# Altium integrated library National Semiconductor Voltage Reference.IntLib: 796 symbols (part 3 of 20)
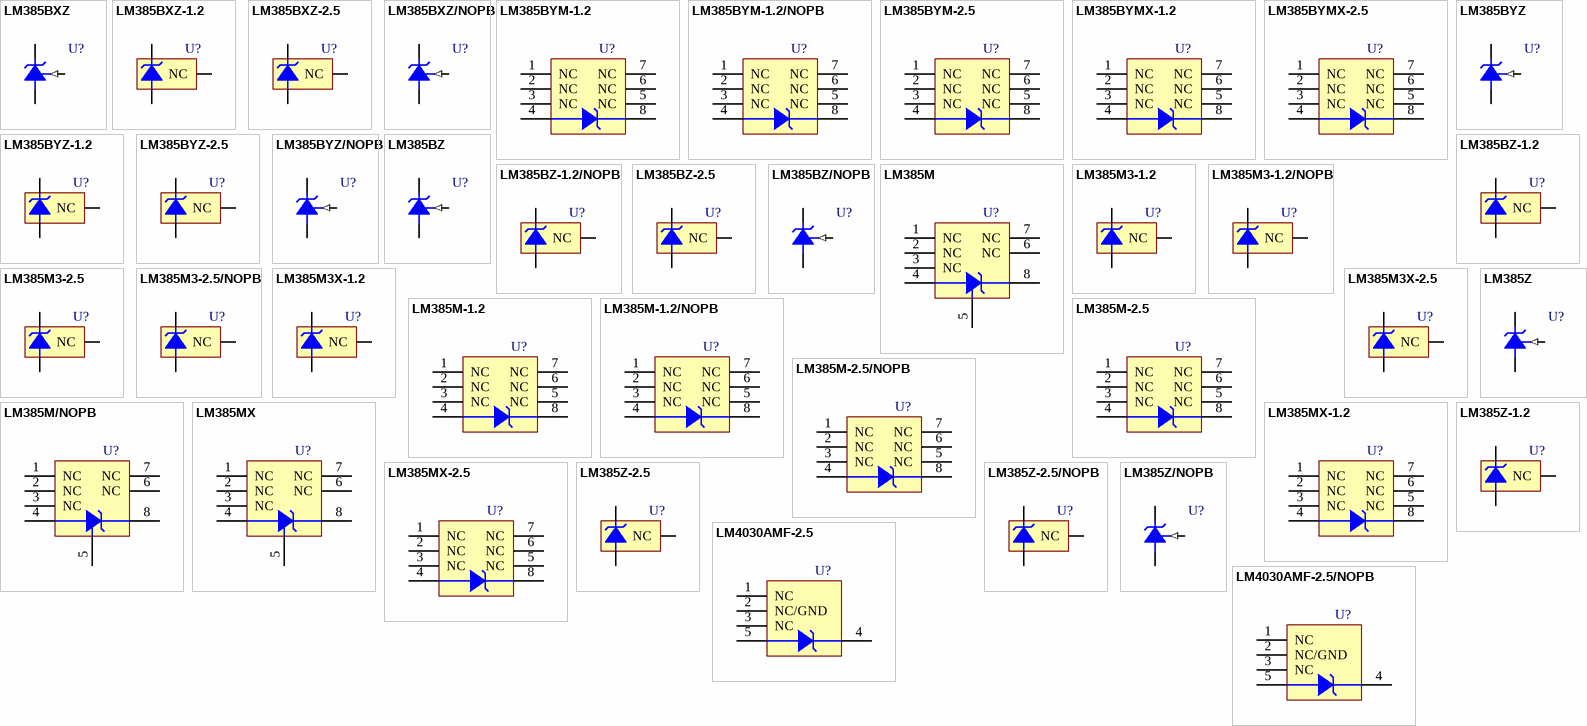
[diagram p22: symbols LM385BXZ to LM4030AMF-2.5/NOPB]

## LM385BYZ/NOPB
designator U?
Adjustable Micropower Voltage Reference, 3-pin TO-92, Pb-Free; PartNumber: LM385BYZ/NOPB; Manufacturer: National Semiconductor; PackageTopMarking: NSXYTT*LM385*BYZ; PowerWise: N; CompType: Voltage Reference IC; High-Reliability: Y; DatasheetVersion: Jan-2008; PackageVersion: revG, Sep-2000; PackageReference: Z03A; PackageDescription: TO-92, Molded, 3 Lead; RoHS: Y; PinCount: 3; Code_JEDEC: TO-226-AA; ComponentLink1Description: Manufacturer URL; ComponentLink1URL: http://www.national.com/; ComponentLink2Description: LM385-ADJ Datasheet; ComponentLink2URL: http://www.national.com/ds/LM/LM385-ADJ.pdf; ComponentLink3Description: LM385-ADJ Web Page; ComponentLink3URL: http://www.national.com/pf/LM/LM385-ADJ.html; ComponentLink4Description: Z03A Package Page; ComponentLink4URL: http://www.national.com/packaging/folders/z03a.html
footprint Z03A (TO, Flat Index; 3 In-Line, Axial Leads; Body Dia. 5mm; Leads 0.55 x 0.50 mm (max))
pins: 1 FB (in), 2 +V, 3 -V

## LM385BZ
designator U?
Adjustable Micropower Voltage Reference, 3-pin TO-92; PartNumber: LM385BZ; Manufacturer: National Semiconductor; PackageTopMarking: NSXYTT*LM385*BZ; PowerWise: N; CompType: Voltage Reference IC; High-Reliability: Y; DatasheetVersion: Jan-2008; PackageVersion: revG, Sep-2000; PackageReference: Z03A; PackageDescription: TO-92, Molded, 3 Lead; RoHS: N; PinCount: 3; Code_JEDEC: TO-226-AA; ComponentLink1Description: Manufacturer URL; ComponentLink1URL: http://www.national.com/; ComponentLink2Description: LM385-ADJ Datasheet; ComponentLink2URL: http://www.national.com/ds/LM/LM385-ADJ.pdf; ComponentLink3Description: LM385-ADJ Web Page; ComponentLink3URL: http://www.national.com/pf/LM/LM385-ADJ.html; ComponentLink4Description: Z03A Package Page; ComponentLink4URL: http://www.national.com/packaging/folders/z03a.html
footprint Z03A (TO, Flat Index; 3 In-Line, Axial Leads; Body Dia. 5mm; Leads 0.55 x 0.50 mm (max))
pins: 1 FB (in), 2 +V, 3 -V

## LM385BZ-1.2
designator U?
Micropower Voltage Reference Diode, 3-pin TO-92; PartNumber: LM385BZ-1.2; Manufacturer: National Semiconductor; PackageTopMarking: NSXYTT*LM385*BZ1.2; PowerWise: N; CompType: Voltage Reference IC; High-Reliability: Y; DatasheetVersion: Jan-2008; PackageVersion: revG, Sep-2000; PackageReference: Z03A; PackageDescription: TO-92, Molded, 3 Lead; RoHS: N; PinCount: 3; Code_JEDEC: TO-226-AA; ComponentLink1Description: Manufacturer URL; ComponentLink1URL: http://www.national.com/; ComponentLink2Description: LM385-1.2 Datasheet; ComponentLink2URL: http://www.national.com/ds/LM/LM385-1.2.pdf; ComponentLink3Description: LM385-1.2 Web Page; ComponentLink3URL: http://www.national.com/pf/LM/LM385-1.2.html; ComponentLink4Description: Z03A Package Page; ComponentLink4URL: http://www.national.com/packaging/folders/z03a.html
footprint Z03A (TO, Flat Index; 3 In-Line, Axial Leads; Body Dia. 5mm; Leads 0.55 x 0.50 mm (max))
pins: 1 NC, 2 +V, 3 -V

## LM385BZ-1.2/NOPB
designator U?
Micropower Voltage Reference Diode, 3-pin TO-92, Pb-Free; PartNumber: LM385BZ-1.2/NOPB; Manufacturer: National Semiconductor; PackageTopMarking: NSXYTT*LM385*BZ1.2; PowerWise: N; CompType: Voltage Reference IC; High-Reliability: Y; DatasheetVersion: Jan-2008; PackageVersion: revG, Sep-2000; PackageReference: Z03A; PackageDescription: TO-92, Molded, 3 Lead; RoHS: Y; PinCount: 3; Code_JEDEC: TO-226-AA; ComponentLink1Description: Manufacturer URL; ComponentLink1URL: http://www.national.com/; ComponentLink2Description: LM385-1.2 Datasheet; ComponentLink2URL: http://www.national.com/ds/LM/LM385-1.2.pdf; ComponentLink3Description: LM385-1.2 Web Page; ComponentLink3URL: http://www.national.com/pf/LM/LM385-1.2.html; ComponentLink4Description: Z03A Package Page; ComponentLink4URL: http://www.national.com/packaging/folders/z03a.html
footprint Z03A (TO, Flat Index; 3 In-Line, Axial Leads; Body Dia. 5mm; Leads 0.55 x 0.50 mm (max))
pins: 1 NC, 2 +V, 3 -V

## LM385BZ-2.5
designator U?
Micropower Voltage Reference Diode, 3-pin TO-92; PartNumber: LM385BZ-2.5; Manufacturer: National Semiconductor; PackageTopMarking: NSXYTT*LM385*BZ2.5; PowerWise: N; CompType: Voltage Reference IC; High-Reliability: Y; DatasheetVersion: Jan-2008; PackageVersion: revG, Sep-2000; PackageReference: Z03A; PackageDescription: TO-92, Molded, 3 Lead; RoHS: N; PinCount: 3; Code_JEDEC: TO-226-AA; ComponentLink1Description: Manufacturer URL; ComponentLink1URL: http://www.national.com/; ComponentLink2Description: LM385-2.5 Datasheet; ComponentLink2URL: http://www.national.com/ds/LM/LM385-2.5.pdf; ComponentLink3Description: LM385-2.5 Web Page; ComponentLink3URL: http://www.national.com/pf/LM/LM385-2.5.html; ComponentLink4Description: Z03A Package Page; ComponentLink4URL: http://www.national.com/packaging/folders/z03a.html
footprint Z03A (TO, Flat Index; 3 In-Line, Axial Leads; Body Dia. 5mm; Leads 0.55 x 0.50 mm (max))
pins: 1 NC, 2 +V, 3 -V

## LM385BZ/NOPB
designator U?
Adjustable Micropower Voltage Reference, 3-pin TO-92, Pb-Free; PartNumber: LM385BZ/NOPB; Manufacturer: National Semiconductor; PackageTopMarking: NSXYTT*LM385*BZ; PowerWise: N; CompType: Voltage Reference IC; High-Reliability: Y; DatasheetVersion: Jan-2008; PackageVersion: revG, Sep-2000; PackageReference: Z03A; PackageDescription: TO-92, Molded, 3 Lead; RoHS: Y; PinCount: 3; Code_JEDEC: TO-226-AA; ComponentLink1Description: Manufacturer URL; ComponentLink1URL: http://www.national.com/; ComponentLink2Description: LM385-ADJ Datasheet; ComponentLink2URL: http://www.national.com/ds/LM/LM385-ADJ.pdf; ComponentLink3Description: LM385-ADJ Web Page; ComponentLink3URL: http://www.national.com/pf/LM/LM385-ADJ.html; ComponentLink4Description: Z03A Package Page; ComponentLink4URL: http://www.national.com/packaging/folders/z03a.html
footprint Z03A (TO, Flat Index; 3 In-Line, Axial Leads; Body Dia. 5mm; Leads 0.55 x 0.50 mm (max))
pins: 1 FB (in), 2 +V, 3 -V

## LM385M
designator U?
Adjustable Micropower Voltage Reference, 8-pin Narrow SOIC; PartNumber: LM385M; Manufacturer: National Semiconductor; PackageTopMarking: NSZXTT*LM385*M; PowerWise: N; CompType: Voltage Reference IC; High-Reliability: Y; DatasheetVersion: Jan-2008; PackageVersion: revM, May-2009; PackageReference: M08A; PackageDescription: SOIC Narrow, 4.9 x 3.9 x 1.45mm, 8 Lead, 1.27mm Pitch; RoHS: N; PinCount: 8; Code_JEDEC: MS-012-AA; Code_IPC: SOIC127P600-8; ComponentLink1Description: Manufacturer URL; ComponentLink1URL: http://www.national.com/; ComponentLink2Description: LM385-ADJ Datasheet; ComponentLink2URL: http://www.national.com/ds/LM/LM385-ADJ.pdf; ComponentLink3Description: LM385-ADJ Web Page; ComponentLink3URL: http://www.national.com/pf/LM/LM385-ADJ.html; ComponentLink4Description: M08A Package Page; ComponentLink4URL: http://www.national.com/packaging/folders/m08a.html
footprint M08A_N (SOIC, 8-Leads, Body 4.9x3.9mm, Pitch 1.27mm, IPC Medium Density)
footprint M08A_L (SOIC, 8-Leads, Body 4.9x3.9mm, Pitch 1.27mm, IPC High Density)
footprint M08A_M (SOIC, 8-Leads, Body 4.9x3.9mm, Pitch 1.27mm, IPC Low Density)
pins: 1 NC, 2 NC, 3 NC, 4 -V, 5 FB, 6 NC, 7 NC, 8 +V

## LM385M3-1.2
designator U?
Micropower Voltage Reference Diode, 3-pin SOT-23; PartNumber: LM385M3-1.2; Manufacturer: National Semiconductor; PackageTopMarking: R11*XTT; PowerWise: N; CompType: Voltage Reference IC; High-Reliability: Y; DatasheetVersion: Jan-2008; PackageVersion: revB, Mar-2003; PackageReference: MF03A; PackageDescription: Molded SOT-23, .115 x .051 x .037in Body, 3 Lead, .075 in Pitch; RoHS: N; PinCount: 3; ComponentLink1Description: Manufacturer URL; ComponentLink1URL: http://www.national.com/; ComponentLink2Description: LM385-1.2 Datasheet; ComponentLink2URL: http://www.national.com/ds/LM/LM385-1.2.pdf; ComponentLink3Description: LM385-1.2 Web Page; ComponentLink3URL: http://www.national.com/pf/LM/LM385-1.2.html; ComponentLink4Description: MF03A Package Page; ComponentLink4URL: http://www.national.com/packaging/folders/mf03a.html
footprint MF03A_N (SOT23, 3-Leads, Body 2.9x1.3mm, Pitch 0.95mm, Lead Span 2.4mm, IPC Medium Density)
footprint MF03A_L (SOT23, 3-Leads, Body 2.9x1.3mm, Pitch 0.95mm, Lead Span 2.4mm, IPC High Density)
footprint MF03A_M (SOT23, 3-Leads, Body 2.9x1.3mm, Pitch 0.95mm, Lead Span 2.4mm, IPC Low Density)
pins: 1 +V, 2 -V, 3 NC

## LM385M3-1.2/NOPB
designator U?
Micropower Voltage Reference Diode, 3-pin SOT-23, Pb-Free; PartNumber: LM385M3-1.2/NOPB; Manufacturer: National Semiconductor; PackageTopMarking: R11*XTT; PowerWise: N; CompType: Voltage Reference IC; High-Reliability: Y; DatasheetVersion: Jan-2008; PackageVersion: revB, Mar-2003; PackageReference: MF03A; PackageDescription: Molded SOT-23, .115 x .051 x .037in Body, 3 Lead, .075 in Pitch; RoHS: Y; PinCount: 3; ComponentLink1Description: Manufacturer URL; ComponentLink1URL: http://www.national.com/; ComponentLink2Description: LM385-1.2 Datasheet; ComponentLink2URL: http://www.national.com/ds/LM/LM385-1.2.pdf; ComponentLink3Description: LM385-1.2 Web Page; ComponentLink3URL: http://www.national.com/pf/LM/LM385-1.2.html; ComponentLink4Description: MF03A Package Page; ComponentLink4URL: http://www.national.com/packaging/folders/mf03a.html
footprint MF03A_N (SOT23, 3-Leads, Body 2.9x1.3mm, Pitch 0.95mm, Lead Span 2.4mm, IPC Medium Density)
footprint MF03A_L (SOT23, 3-Leads, Body 2.9x1.3mm, Pitch 0.95mm, Lead Span 2.4mm, IPC High Density)
footprint MF03A_M (SOT23, 3-Leads, Body 2.9x1.3mm, Pitch 0.95mm, Lead Span 2.4mm, IPC Low Density)
pins: 1 +V, 2 -V, 3 NC

## LM385M3-2.5
designator U?
Micropower Voltage Reference Diode, 3-pin SOT-23; PartNumber: LM385M3-2.5; Manufacturer: National Semiconductor; PackageTopMarking: R12*XTT; PowerWise: N; CompType: Voltage Reference IC; High-Reliability: Y; DatasheetVersion: Jan-2008; PackageVersion: revB, Mar-2003; PackageReference: MF03A; PackageDescription: Molded SOT-23, .115 x .051 x .037in Body, 3 Lead, .075 in Pitch; RoHS: N; PinCount: 3; ComponentLink1Description: Manufacturer URL; ComponentLink1URL: http://www.national.com/; ComponentLink2Description: LM385-2.5 Datasheet; ComponentLink2URL: http://www.national.com/ds/LM/LM385-2.5.pdf; ComponentLink3Description: LM385-2.5 Web Page; ComponentLink3URL: http://www.national.com/pf/LM/LM385-2.5.html; ComponentLink4Description: MF03A Package Page; ComponentLink4URL: http://www.national.com/packaging/folders/mf03a.html
footprint MF03A_N (SOT23, 3-Leads, Body 2.9x1.3mm, Pitch 0.95mm, Lead Span 2.4mm, IPC Medium Density)
footprint MF03A_L (SOT23, 3-Leads, Body 2.9x1.3mm, Pitch 0.95mm, Lead Span 2.4mm, IPC High Density)
footprint MF03A_M (SOT23, 3-Leads, Body 2.9x1.3mm, Pitch 0.95mm, Lead Span 2.4mm, IPC Low Density)
pins: 1 +V, 2 -V, 3 NC

## LM385M3-2.5/NOPB
designator U?
Micropower Voltage Reference Diode, 3-pin SOT-23, Pb-Free; PartNumber: LM385M3-2.5/NOPB; Manufacturer: National Semiconductor; PackageTopMarking: R12*XTT; PowerWise: N; CompType: Voltage Reference IC; High-Reliability: Y; DatasheetVersion: Jan-2008; PackageVersion: revB, Mar-2003; PackageReference: MF03A; PackageDescription: Molded SOT-23, .115 x .051 x .037in Body, 3 Lead, .075 in Pitch; RoHS: Y; PinCount: 3; ComponentLink1Description: Manufacturer URL; ComponentLink1URL: http://www.national.com/; ComponentLink2Description: LM385-2.5 Datasheet; ComponentLink2URL: http://www.national.com/ds/LM/LM385-2.5.pdf; ComponentLink3Description: LM385-2.5 Web Page; ComponentLink3URL: http://www.national.com/pf/LM/LM385-2.5.html; ComponentLink4Description: MF03A Package Page; ComponentLink4URL: http://www.national.com/packaging/folders/mf03a.html
footprint MF03A_N (SOT23, 3-Leads, Body 2.9x1.3mm, Pitch 0.95mm, Lead Span 2.4mm, IPC Medium Density)
footprint MF03A_L (SOT23, 3-Leads, Body 2.9x1.3mm, Pitch 0.95mm, Lead Span 2.4mm, IPC High Density)
footprint MF03A_M (SOT23, 3-Leads, Body 2.9x1.3mm, Pitch 0.95mm, Lead Span 2.4mm, IPC Low Density)
pins: 1 +V, 2 -V, 3 NC

## LM385M3X-1.2
designator U?
Micropower Voltage Reference Diode, 3-pin SOT-23; PartNumber: LM385M3X-1.2; Manufacturer: National Semiconductor; PackageTopMarking: R11*XTT; PowerWise: N; CompType: Voltage Reference IC; High-Reliability: Y; DatasheetVersion: Jan-2008; PackageVersion: revB, Mar-2003; PackageReference: MF03A; PackageDescription: Molded SOT-23, .115 x .051 x .037in Body, 3 Lead, .075 in Pitch; RoHS: N; PinCount: 3; ComponentLink1Description: Manufacturer URL; ComponentLink1URL: http://www.national.com/; ComponentLink2Description: LM385-1.2 Datasheet; ComponentLink2URL: http://www.national.com/ds/LM/LM385-1.2.pdf; ComponentLink3Description: LM385-1.2 Web Page; ComponentLink3URL: http://www.national.com/pf/LM/LM385-1.2.html; ComponentLink4Description: MF03A Package Page; ComponentLink4URL: http://www.national.com/packaging/folders/mf03a.html
footprint MF03A_N (SOT23, 3-Leads, Body 2.9x1.3mm, Pitch 0.95mm, Lead Span 2.4mm, IPC Medium Density)
footprint MF03A_L (SOT23, 3-Leads, Body 2.9x1.3mm, Pitch 0.95mm, Lead Span 2.4mm, IPC High Density)
footprint MF03A_M (SOT23, 3-Leads, Body 2.9x1.3mm, Pitch 0.95mm, Lead Span 2.4mm, IPC Low Density)
pins: 1 +V, 2 -V, 3 NC

## LM385M3X-2.5
designator U?
Micropower Voltage Reference Diode, 3-pin SOT-23; PartNumber: LM385M3X-2.5; Manufacturer: National Semiconductor; PackageTopMarking: R12*XTT; PowerWise: N; CompType: Voltage Reference IC; High-Reliability: Y; DatasheetVersion: Jan-2008; PackageVersion: revB, Mar-2003; PackageReference: MF03A; PackageDescription: Molded SOT-23, .115 x .051 x .037in Body, 3 Lead, .075 in Pitch; RoHS: N; PinCount: 3; ComponentLink1Description: Manufacturer URL; ComponentLink1URL: http://www.national.com/; ComponentLink2Description: LM385-2.5 Datasheet; ComponentLink2URL: http://www.national.com/ds/LM/LM385-2.5.pdf; ComponentLink3Description: LM385-2.5 Web Page; ComponentLink3URL: http://www.national.com/pf/LM/LM385-2.5.html; ComponentLink4Description: MF03A Package Page; ComponentLink4URL: http://www.national.com/packaging/folders/mf03a.html
footprint MF03A_N (SOT23, 3-Leads, Body 2.9x1.3mm, Pitch 0.95mm, Lead Span 2.4mm, IPC Medium Density)
footprint MF03A_L (SOT23, 3-Leads, Body 2.9x1.3mm, Pitch 0.95mm, Lead Span 2.4mm, IPC High Density)
footprint MF03A_M (SOT23, 3-Leads, Body 2.9x1.3mm, Pitch 0.95mm, Lead Span 2.4mm, IPC Low Density)
pins: 1 +V, 2 -V, 3 NC

## LM385M-1.2
designator U?
Micropower Voltage Reference Diode, 8-pin Narrow SOIC; PartNumber: LM385M-1.2; Manufacturer: National Semiconductor; PackageTopMarking: NSZXTT*LM385*M1.2; PowerWise: N; CompType: Voltage Reference IC; High-Reliability: Y; DatasheetVersion: Jan-2008; PackageVersion: revM, May-2009; PackageReference: M08A; PackageDescription: SOIC Narrow, 4.9 x 3.9 x 1.45mm, 8 Lead, 1.27mm Pitch; RoHS: N; PinCount: 8; Code_JEDEC: MS-012-AA; Code_IPC: SOIC127P600-8; ComponentLink1Description: Manufacturer URL; ComponentLink1URL: http://www.national.com/; ComponentLink2Description: LM385-1.2 Datasheet; ComponentLink2URL: http://www.national.com/ds/LM/LM385-1.2.pdf; ComponentLink3Description: LM385-1.2 Web Page; ComponentLink3URL: http://www.national.com/pf/LM/LM385-1.2.html; ComponentLink4Description: M08A Package Page; ComponentLink4URL: http://www.national.com/packaging/folders/m08a.html
footprint M08A_N (SOIC, 8-Leads, Body 4.9x3.9mm, Pitch 1.27mm, IPC Medium Density)
footprint M08A_L (SOIC, 8-Leads, Body 4.9x3.9mm, Pitch 1.27mm, IPC High Density)
footprint M08A_M (SOIC, 8-Leads, Body 4.9x3.9mm, Pitch 1.27mm, IPC Low Density)
pins: 1 NC, 2 NC, 3 NC, 4 -V, 5 NC, 6 NC, 7 NC, 8 +V

## LM385M-1.2/NOPB
designator U?
Micropower Voltage Reference Diode, 8-pin Narrow SOIC, Pb-Free; PartNumber: LM385M-1.2/NOPB; Manufacturer: National Semiconductor; PackageTopMarking: NSZXTT*LM385*M1.2; PowerWise: N; CompType: Voltage Reference IC; High-Reliability: Y; DatasheetVersion: Jan-2008; PackageVersion: revM, May-2009; PackageReference: M08A; PackageDescription: SOIC Narrow, 4.9 x 3.9 x 1.45mm, 8 Lead, 1.27mm Pitch; RoHS: Y; PinCount: 8; Code_JEDEC: MS-012-AA; Code_IPC: SOIC127P600-8; ComponentLink1Description: Manufacturer URL; ComponentLink1URL: http://www.national.com/; ComponentLink2Description: LM385-1.2 Datasheet; ComponentLink2URL: http://www.national.com/ds/LM/LM385-1.2.pdf; ComponentLink3Description: LM385-1.2 Web Page; ComponentLink3URL: http://www.national.com/pf/LM/LM385-1.2.html; ComponentLink4Description: M08A Package Page; ComponentLink4URL: http://www.national.com/packaging/folders/m08a.html
footprint M08A_N (SOIC, 8-Leads, Body 4.9x3.9mm, Pitch 1.27mm, IPC Medium Density)
footprint M08A_L (SOIC, 8-Leads, Body 4.9x3.9mm, Pitch 1.27mm, IPC High Density)
footprint M08A_M (SOIC, 8-Leads, Body 4.9x3.9mm, Pitch 1.27mm, IPC Low Density)
pins: 1 NC, 2 NC, 3 NC, 4 -V, 5 NC, 6 NC, 7 NC, 8 +V

## LM385M-2.5
designator U?
Micropower Voltage Reference Diode, 8-pin Narrow SOIC; PartNumber: LM385M-2.5; Manufacturer: National Semiconductor; PackageTopMarking: NSZXTT*LM385*M2.5; PowerWise: N; CompType: Voltage Reference IC; High-Reliability: Y; DatasheetVersion: Jan-2008; PackageVersion: revM, May-2009; PackageReference: M08A; PackageDescription: SOIC Narrow, 4.9 x 3.9 x 1.45mm, 8 Lead, 1.27mm Pitch; RoHS: N; PinCount: 8; Code_JEDEC: MS-012-AA; Code_IPC: SOIC127P600-8; ComponentLink1Description: Manufacturer URL; ComponentLink1URL: http://www.national.com/; ComponentLink2Description: LM385-2.5 Datasheet; ComponentLink2URL: http://www.national.com/ds/LM/LM385-2.5.pdf; ComponentLink3Description: LM385-2.5 Web Page; ComponentLink3URL: http://www.national.com/pf/LM/LM385-2.5.html; ComponentLink4Description: M08A Package Page; ComponentLink4URL: http://www.national.com/packaging/folders/m08a.html
footprint M08A_N (SOIC, 8-Leads, Body 4.9x3.9mm, Pitch 1.27mm, IPC Medium Density)
footprint M08A_L (SOIC, 8-Leads, Body 4.9x3.9mm, Pitch 1.27mm, IPC High Density)
footprint M08A_M (SOIC, 8-Leads, Body 4.9x3.9mm, Pitch 1.27mm, IPC Low Density)
pins: 1 NC, 2 NC, 3 NC, 4 -V, 5 NC, 6 NC, 7 NC, 8 +V

## LM385M-2.5/NOPB
designator U?
Micropower Voltage Reference Diode, 8-pin Narrow SOIC, Pb-Free; PartNumber: LM385M-2.5/NOPB; Manufacturer: National Semiconductor; PackageTopMarking: NSZXTT*LM385*M2.5; PowerWise: N; CompType: Voltage Reference IC; High-Reliability: Y; DatasheetVersion: Jan-2008; PackageVersion: revM, May-2009; PackageReference: M08A; PackageDescription: SOIC Narrow, 4.9 x 3.9 x 1.45mm, 8 Lead, 1.27mm Pitch; RoHS: Y; PinCount: 8; Code_JEDEC: MS-012-AA; Code_IPC: SOIC127P600-8; ComponentLink1Description: Manufacturer URL; ComponentLink1URL: http://www.national.com/; ComponentLink2Description: LM385-2.5 Datasheet; ComponentLink2URL: http://www.national.com/ds/LM/LM385-2.5.pdf; ComponentLink3Description: LM385-2.5 Web Page; ComponentLink3URL: http://www.national.com/pf/LM/LM385-2.5.html; ComponentLink4Description: M08A Package Page; ComponentLink4URL: http://www.national.com/packaging/folders/m08a.html
footprint M08A_N (SOIC, 8-Leads, Body 4.9x3.9mm, Pitch 1.27mm, IPC Medium Density)
footprint M08A_L (SOIC, 8-Leads, Body 4.9x3.9mm, Pitch 1.27mm, IPC High Density)
footprint M08A_M (SOIC, 8-Leads, Body 4.9x3.9mm, Pitch 1.27mm, IPC Low Density)
pins: 1 NC, 2 NC, 3 NC, 4 -V, 5 NC, 6 NC, 7 NC, 8 +V

## LM385M/NOPB
designator U?
Adjustable Micropower Voltage Reference, 8-pin Narrow SOIC, Pb-Free; PartNumber: LM385M/NOPB; Manufacturer: National Semiconductor; PackageTopMarking: NSZXTT*LM385*M; PowerWise: N; CompType: Voltage Reference IC; High-Reliability: Y; DatasheetVersion: Jan-2008; PackageVersion: revM, May-2009; PackageReference: M08A; PackageDescription: SOIC Narrow, 4.9 x 3.9 x 1.45mm, 8 Lead, 1.27mm Pitch; RoHS: Y; PinCount: 8; Code_JEDEC: MS-012-AA; Code_IPC: SOIC127P600-8; ComponentLink1Description: Manufacturer URL; ComponentLink1URL: http://www.national.com/; ComponentLink2Description: LM385-ADJ Datasheet; ComponentLink2URL: http://www.national.com/ds/LM/LM385-ADJ.pdf; ComponentLink3Description: LM385-ADJ Web Page; ComponentLink3URL: http://www.national.com/pf/LM/LM385-ADJ.html; ComponentLink4Description: M08A Package Page; ComponentLink4URL: http://www.national.com/packaging/folders/m08a.html
footprint M08A_N (SOIC, 8-Leads, Body 4.9x3.9mm, Pitch 1.27mm, IPC Medium Density)
footprint M08A_L (SOIC, 8-Leads, Body 4.9x3.9mm, Pitch 1.27mm, IPC High Density)
footprint M08A_M (SOIC, 8-Leads, Body 4.9x3.9mm, Pitch 1.27mm, IPC Low Density)
pins: 1 NC, 2 NC, 3 NC, 4 -V, 5 FB, 6 NC, 7 NC, 8 +V

## LM385MX
designator U?
Adjustable Micropower Voltage Reference, 8-pin Narrow SOIC; PartNumber: LM385MX; Manufacturer: National Semiconductor; PackageTopMarking: NSZXTT*LM385*M; PowerWise: N; CompType: Voltage Reference IC; High-Reliability: Y; DatasheetVersion: Jan-2008; PackageVersion: revM, May-2009; PackageReference: M08A; PackageDescription: SOIC Narrow, 4.9 x 3.9 x 1.45mm, 8 Lead, 1.27mm Pitch; RoHS: N; PinCount: 8; Code_JEDEC: MS-012-AA; Code_IPC: SOIC127P600-8; ComponentLink1Description: Manufacturer URL; ComponentLink1URL: http://www.national.com/; ComponentLink2Description: LM385-ADJ Datasheet; ComponentLink2URL: http://www.national.com/ds/LM/LM385-ADJ.pdf; ComponentLink3Description: LM385-ADJ Web Page; ComponentLink3URL: http://www.national.com/pf/LM/LM385-ADJ.html; ComponentLink4Description: M08A Package Page; ComponentLink4URL: http://www.national.com/packaging/folders/m08a.html
footprint M08A_N (SOIC, 8-Leads, Body 4.9x3.9mm, Pitch 1.27mm, IPC Medium Density)
footprint M08A_L (SOIC, 8-Leads, Body 4.9x3.9mm, Pitch 1.27mm, IPC High Density)
footprint M08A_M (SOIC, 8-Leads, Body 4.9x3.9mm, Pitch 1.27mm, IPC Low Density)
pins: 1 NC, 2 NC, 3 NC, 4 -V, 5 FB, 6 NC, 7 NC, 8 +V

## LM385MX-1.2
designator U?
Micropower Voltage Reference Diode, 8-pin Narrow SOIC; PartNumber: LM385MX-1.2; Manufacturer: National Semiconductor; PackageTopMarking: NSZXTT*LM385*M1.2; PowerWise: N; CompType: Voltage Reference IC; High-Reliability: Y; DatasheetVersion: Jan-2008; PackageVersion: revM, May-2009; PackageReference: M08A; PackageDescription: SOIC Narrow, 4.9 x 3.9 x 1.45mm, 8 Lead, 1.27mm Pitch; RoHS: N; PinCount: 8; Code_JEDEC: MS-012-AA; Code_IPC: SOIC127P600-8; ComponentLink1Description: Manufacturer URL; ComponentLink1URL: http://www.national.com/; ComponentLink2Description: LM385-1.2 Datasheet; ComponentLink2URL: http://www.national.com/ds/LM/LM385-1.2.pdf; ComponentLink3Description: LM385-1.2 Web Page; ComponentLink3URL: http://www.national.com/pf/LM/LM385-1.2.html; ComponentLink4Description: M08A Package Page; ComponentLink4URL: http://www.national.com/packaging/folders/m08a.html
footprint M08A_N (SOIC, 8-Leads, Body 4.9x3.9mm, Pitch 1.27mm, IPC Medium Density)
footprint M08A_L (SOIC, 8-Leads, Body 4.9x3.9mm, Pitch 1.27mm, IPC High Density)
footprint M08A_M (SOIC, 8-Leads, Body 4.9x3.9mm, Pitch 1.27mm, IPC Low Density)
pins: 1 NC, 2 NC, 3 NC, 4 -V, 5 NC, 6 NC, 7 NC, 8 +V

## LM385MX-2.5
designator U?
Micropower Voltage Reference Diode, 8-pin Narrow SOIC; PartNumber: LM385MX-2.5; Manufacturer: National Semiconductor; PackageTopMarking: NSZXTT*LM385*M2.5; PowerWise: N; CompType: Voltage Reference IC; High-Reliability: Y; DatasheetVersion: Jan-2008; PackageVersion: revM, May-2009; PackageReference: M08A; PackageDescription: SOIC Narrow, 4.9 x 3.9 x 1.45mm, 8 Lead, 1.27mm Pitch; RoHS: N; PinCount: 8; Code_JEDEC: MS-012-AA; Code_IPC: SOIC127P600-8; ComponentLink1Description: Manufacturer URL; ComponentLink1URL: http://www.national.com/; ComponentLink2Description: LM385-2.5 Datasheet; ComponentLink2URL: http://www.national.com/ds/LM/LM385-2.5.pdf; ComponentLink3Description: LM385-2.5 Web Page; ComponentLink3URL: http://www.national.com/pf/LM/LM385-2.5.html; ComponentLink4Description: M08A Package Page; ComponentLink4URL: http://www.national.com/packaging/folders/m08a.html
footprint M08A_N (SOIC, 8-Leads, Body 4.9x3.9mm, Pitch 1.27mm, IPC Medium Density)
footprint M08A_L (SOIC, 8-Leads, Body 4.9x3.9mm, Pitch 1.27mm, IPC High Density)
footprint M08A_M (SOIC, 8-Leads, Body 4.9x3.9mm, Pitch 1.27mm, IPC Low Density)
pins: 1 NC, 2 NC, 3 NC, 4 -V, 5 NC, 6 NC, 7 NC, 8 +V

## LM385Z
designator U?
Adjustable Micropower Voltage Reference, 3-pin TO-92; PartNumber: LM385Z; Manufacturer: National Semiconductor; PackageTopMarking: NSXYTT*LM385*Z; PowerWise: N; CompType: Voltage Reference IC; High-Reliability: Y; DatasheetVersion: Jan-2008; PackageVersion: revG, Sep-2000; PackageReference: Z03A; PackageDescription: TO-92, Molded, 3 Lead; RoHS: N; PinCount: 3; Code_JEDEC: TO-226-AA; ComponentLink1Description: Manufacturer URL; ComponentLink1URL: http://www.national.com/; ComponentLink2Description: LM385-ADJ Datasheet; ComponentLink2URL: http://www.national.com/ds/LM/LM385-ADJ.pdf; ComponentLink3Description: LM385-ADJ Web Page; ComponentLink3URL: http://www.national.com/pf/LM/LM385-ADJ.html; ComponentLink4Description: Z03A Package Page; ComponentLink4URL: http://www.national.com/packaging/folders/z03a.html
footprint Z03A (TO, Flat Index; 3 In-Line, Axial Leads; Body Dia. 5mm; Leads 0.55 x 0.50 mm (max))
pins: 1 FB (in), 2 +V, 3 -V

## LM385Z-1.2
designator U?
Micropower Voltage Reference Diode, 3-pin TO-92; PartNumber: LM385Z-1.2; Manufacturer: National Semiconductor; PackageTopMarking: NSXYTT*LM385*Z-1.2; PowerWise: N; CompType: Voltage Reference IC; High-Reliability: Y; DatasheetVersion: Jan-2008; PackageVersion: revG, Sep-2000; PackageReference: Z03A; PackageDescription: TO-92, Molded, 3 Lead; RoHS: N; PinCount: 3; Code_JEDEC: TO-226-AA; ComponentLink1Description: Manufacturer URL; ComponentLink1URL: http://www.national.com/; ComponentLink2Description: LM385-1.2 Datasheet; ComponentLink2URL: http://www.national.com/ds/LM/LM385-1.2.pdf; ComponentLink3Description: LM385-1.2 Web Page; ComponentLink3URL: http://www.national.com/pf/LM/LM385-1.2.html; ComponentLink4Description: Z03A Package Page; ComponentLink4URL: http://www.national.com/packaging/folders/z03a.html
footprint Z03A (TO, Flat Index; 3 In-Line, Axial Leads; Body Dia. 5mm; Leads 0.55 x 0.50 mm (max))
pins: 1 NC, 2 +V, 3 -V

## LM385Z-2.5
designator U?
Micropower Voltage Reference Diode, 3-pin TO-92; PartNumber: LM385Z-2.5; Manufacturer: National Semiconductor; PackageTopMarking: NSXYTT*LM385*Z2.5; PowerWise: N; CompType: Voltage Reference IC; High-Reliability: Y; DatasheetVersion: Jan-2008; PackageVersion: revG, Sep-2000; PackageReference: Z03A; PackageDescription: TO-92, Molded, 3 Lead; RoHS: N; PinCount: 3; Code_JEDEC: TO-226-AA; ComponentLink1Description: Manufacturer URL; ComponentLink1URL: http://www.national.com/; ComponentLink2Description: LM385-2.5 Datasheet; ComponentLink2URL: http://www.national.com/ds/LM/LM385-2.5.pdf; ComponentLink3Description: LM385-2.5 Web Page; ComponentLink3URL: http://www.national.com/pf/LM/LM385-2.5.html; ComponentLink4Description: Z03A Package Page; ComponentLink4URL: http://www.national.com/packaging/folders/z03a.html
footprint Z03A (TO, Flat Index; 3 In-Line, Axial Leads; Body Dia. 5mm; Leads 0.55 x 0.50 mm (max))
pins: 1 NC, 2 +V, 3 -V

## LM385Z-2.5/NOPB
designator U?
Micropower Voltage Reference Diode, 3-pin TO-92, Pb-Free; PartNumber: LM385Z-2.5/NOPB; Manufacturer: National Semiconductor; PackageTopMarking: NSXYTT*LM385*Z2.5; PowerWise: N; CompType: Voltage Reference IC; High-Reliability: Y; DatasheetVersion: Jan-2008; PackageVersion: revG, Sep-2000; PackageReference: Z03A; PackageDescription: TO-92, Molded, 3 Lead; RoHS: Y; PinCount: 3; Code_JEDEC: TO-226-AA; ComponentLink1Description: Manufacturer URL; ComponentLink1URL: http://www.national.com/; ComponentLink2Description: LM385-2.5 Datasheet; ComponentLink2URL: http://www.national.com/ds/LM/LM385-2.5.pdf; ComponentLink3Description: LM385-2.5 Web Page; ComponentLink3URL: http://www.national.com/pf/LM/LM385-2.5.html; ComponentLink4Description: Z03A Package Page; ComponentLink4URL: http://www.national.com/packaging/folders/z03a.html
footprint Z03A (TO, Flat Index; 3 In-Line, Axial Leads; Body Dia. 5mm; Leads 0.55 x 0.50 mm (max))
pins: 1 NC, 2 +V, 3 -V

## LM385Z/NOPB
designator U?
Adjustable Micropower Voltage Reference, 3-pin TO-92, Pb-Free; PartNumber: LM385Z/NOPB; Manufacturer: National Semiconductor; PackageTopMarking: NSXYTT*LM385*Z; PowerWise: N; CompType: Voltage Reference IC; High-Reliability: Y; DatasheetVersion: Jan-2008; PackageVersion: revG, Sep-2000; PackageReference: Z03A; PackageDescription: TO-92, Molded, 3 Lead; RoHS: Y; PinCount: 3; Code_JEDEC: TO-226-AA; ComponentLink1Description: Manufacturer URL; ComponentLink1URL: http://www.national.com/; ComponentLink2Description: LM385-ADJ Datasheet; ComponentLink2URL: http://www.national.com/ds/LM/LM385-ADJ.pdf; ComponentLink3Description: LM385-ADJ Web Page; ComponentLink3URL: http://www.national.com/pf/LM/LM385-ADJ.html; ComponentLink4Description: Z03A Package Page; ComponentLink4URL: http://www.national.com/packaging/folders/z03a.html
footprint Z03A (TO, Flat Index; 3 In-Line, Axial Leads; Body Dia. 5mm; Leads 0.55 x 0.50 mm (max))
pins: 1 FB (in), 2 +V, 3 -V

## LM4030AMF-2.5
designator U?
Ultra-High Precision Shunt Voltage Reference, 5-pin SOT-23; PartNumber: LM4030AMF-2.5; Manufacturer: National Semiconductor; PackageTopMarking: R5JA*XTT; PowerWise: N; CompType: Voltage Reference IC; High-Reliability: Y; DatasheetVersion: May-2008; PackageVersion: revD, Aug-2008; PackageReference: MF05A; PackageDescription: Molded SOT-23, .115 x .063 x .040 in Body, 5 Lead, .0375 in Pitch; RoHS: Y; PinCount: 5; ComponentLink1Description: Manufacturer URL; ComponentLink1URL: http://www.national.com/; ComponentLink2Description: LM4030 Datasheet; ComponentLink2URL: http://www.national.com/ds/LM/LM4030.pdf; ComponentLink3Description: LM4030 Web Page; ComponentLink3URL: http://www.national.com/pf/LM/LM4030.html; ComponentLink4Description: MF05A Package Page; ComponentLink4URL: http://www.national.com/packaging/folders/mf05a.html
footprint MF05A_N (SOT23, 5-Leads, Body 2.9x1.6mm, Pitch 0.95mm, Lead Span 2.8mm, IPC Medium Density)
footprint MF05A_L (SOT23, 5-Leads, Body 2.9x1.6mm, Pitch 0.95mm, Lead Span 2.8mm, IPC High Density)
footprint MF05A_M (SOT23, 5-Leads, Body 2.9x1.6mm, Pitch 0.95mm, Lead Span 2.8mm, IPC Low Density)
pins: 1 NC, 2 NC/GND, 3 NC, 4 +VREF, 5 -GND

## LM4030AMF-2.5/NOPB
designator U?
Ultra-High Precision Shunt Voltage Reference, 5-pin SOT-23, Pb-Free; PartNumber: LM4030AMF-2.5/NOPB; Manufacturer: National Semiconductor; PackageTopMarking: R5JA*XTT; PowerWise: N; CompType: Voltage Reference IC; High-Reliability: Y; DatasheetVersion: May-2008; PackageVersion: revD, Aug-2008; PackageReference: MF05A; PackageDescription: Molded SOT-23, .115 x .063 x .040 in Body, 5 Lead, .0375 in Pitch; RoHS: Y; PinCount: 5; ComponentLink1Description: Manufacturer URL; ComponentLink1URL: http://www.national.com/; ComponentLink2Description: LM4030 Datasheet; ComponentLink2URL: http://www.national.com/ds/LM/LM4030.pdf; ComponentLink3Description: LM4030 Web Page; ComponentLink3URL: http://www.national.com/pf/LM/LM4030.html; ComponentLink4Description: MF05A Package Page; ComponentLink4URL: http://www.national.com/packaging/folders/mf05a.html
footprint MF05A_N (SOT23, 5-Leads, Body 2.9x1.6mm, Pitch 0.95mm, Lead Span 2.8mm, IPC Medium Density)
footprint MF05A_L (SOT23, 5-Leads, Body 2.9x1.6mm, Pitch 0.95mm, Lead Span 2.8mm, IPC High Density)
footprint MF05A_M (SOT23, 5-Leads, Body 2.9x1.6mm, Pitch 0.95mm, Lead Span 2.8mm, IPC Low Density)
pins: 1 NC, 2 NC/GND, 3 NC, 4 +VREF, 5 -GND

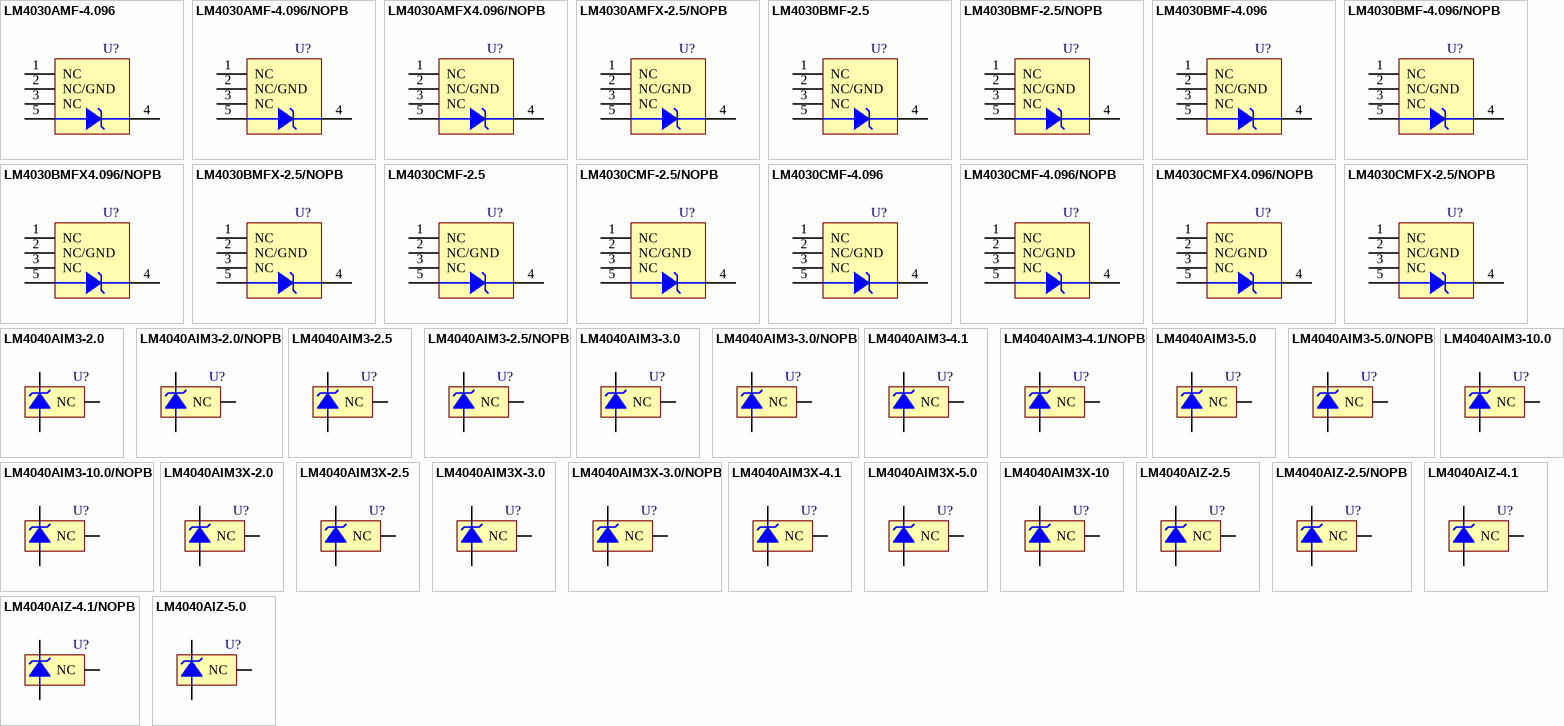
[diagram p3: symbols LM4030AMF-4.096 to LM4040AIZ-5.0]

## LM4030AMF-4.096
designator U?
Ultra-High Precision Shunt Voltage Reference, 5-pin SOT-23; PartNumber: LM4030AMF-4.096; Manufacturer: National Semiconductor; PackageTopMarking: R5KA*XTT; PowerWise: N; CompType: Voltage Reference IC; High-Reliability: Y; DatasheetVersion: May-2008; PackageVersion: revD, Aug-2008; PackageReference: MF05A; PackageDescription: Molded SOT-23, .115 x .063 x .040 in Body, 5 Lead, .0375 in Pitch; RoHS: Y; PinCount: 5; ComponentLink1Description: Manufacturer URL; ComponentLink1URL: http://www.national.com/; ComponentLink2Description: LM4030 Datasheet; ComponentLink2URL: http://www.national.com/ds/LM/LM4030.pdf; ComponentLink3Description: LM4030 Web Page; ComponentLink3URL: http://www.national.com/pf/LM/LM4030.html; ComponentLink4Description: MF05A Package Page; ComponentLink4URL: http://www.national.com/packaging/folders/mf05a.html
footprint MF05A_N (SOT23, 5-Leads, Body 2.9x1.6mm, Pitch 0.95mm, Lead Span 2.8mm, IPC Medium Density)
footprint MF05A_L (SOT23, 5-Leads, Body 2.9x1.6mm, Pitch 0.95mm, Lead Span 2.8mm, IPC High Density)
footprint MF05A_M (SOT23, 5-Leads, Body 2.9x1.6mm, Pitch 0.95mm, Lead Span 2.8mm, IPC Low Density)
pins: 1 NC, 2 NC/GND, 3 NC, 4 +VREF, 5 -GND

## LM4030AMF-4.096/NOPB
designator U?
Ultra-High Precision Shunt Voltage Reference, 5-pin SOT-23, Pb-Free; PartNumber: LM4030AMF-4.096/NOPB; Manufacturer: National Semiconductor; PackageTopMarking: R5KA*XTT; PowerWise: N; CompType: Voltage Reference IC; High-Reliability: Y; DatasheetVersion: May-2008; PackageVersion: revD, Aug-2008; PackageReference: MF05A; PackageDescription: Molded SOT-23, .115 x .063 x .040 in Body, 5 Lead, .0375 in Pitch; RoHS: Y; PinCount: 5; ComponentLink1Description: Manufacturer URL; ComponentLink1URL: http://www.national.com/; ComponentLink2Description: LM4030 Datasheet; ComponentLink2URL: http://www.national.com/ds/LM/LM4030.pdf; ComponentLink3Description: LM4030 Web Page; ComponentLink3URL: http://www.national.com/pf/LM/LM4030.html; ComponentLink4Description: MF05A Package Page; ComponentLink4URL: http://www.national.com/packaging/folders/mf05a.html
footprint MF05A_N (SOT23, 5-Leads, Body 2.9x1.6mm, Pitch 0.95mm, Lead Span 2.8mm, IPC Medium Density)
footprint MF05A_L (SOT23, 5-Leads, Body 2.9x1.6mm, Pitch 0.95mm, Lead Span 2.8mm, IPC High Density)
footprint MF05A_M (SOT23, 5-Leads, Body 2.9x1.6mm, Pitch 0.95mm, Lead Span 2.8mm, IPC Low Density)
pins: 1 NC, 2 NC/GND, 3 NC, 4 +VREF, 5 -GND

## LM4030AMFX4.096/NOPB
designator U?
Ultra-High Precision Shunt Voltage Reference, 5-pin SOT-23, Pb-Free; PartNumber: LM4030AMFX4.096/NOPB; Manufacturer: National Semiconductor; PackageTopMarking: R5KA*XTT; PowerWise: N; CompType: Voltage Reference IC; High-Reliability: Y; DatasheetVersion: May-2008; PackageVersion: revD, Aug-2008; PackageReference: MF05A; PackageDescription: Molded SOT-23, .115 x .063 x .040 in Body, 5 Lead, .0375 in Pitch; RoHS: Y; PinCount: 5; ComponentLink1Description: Manufacturer URL; ComponentLink1URL: http://www.national.com/; ComponentLink2Description: LM4030 Datasheet; ComponentLink2URL: http://www.national.com/ds/LM/LM4030.pdf; ComponentLink3Description: LM4030 Web Page; ComponentLink3URL: http://www.national.com/pf/LM/LM4030.html; ComponentLink4Description: MF05A Package Page; ComponentLink4URL: http://www.national.com/packaging/folders/mf05a.html
footprint MF05A_N (SOT23, 5-Leads, Body 2.9x1.6mm, Pitch 0.95mm, Lead Span 2.8mm, IPC Medium Density)
footprint MF05A_L (SOT23, 5-Leads, Body 2.9x1.6mm, Pitch 0.95mm, Lead Span 2.8mm, IPC High Density)
footprint MF05A_M (SOT23, 5-Leads, Body 2.9x1.6mm, Pitch 0.95mm, Lead Span 2.8mm, IPC Low Density)
pins: 1 NC, 2 NC/GND, 3 NC, 4 +VREF, 5 -GND

## LM4030AMFX-2.5/NOPB
designator U?
Ultra-High Precision Shunt Voltage Reference, 5-pin SOT-23, Pb-Free; PartNumber: LM4030AMFX-2.5/NOPB; Manufacturer: National Semiconductor; PackageTopMarking: R5JA*XTT; PowerWise: N; CompType: Voltage Reference IC; High-Reliability: Y; DatasheetVersion: May-2008; PackageVersion: revD, Aug-2008; PackageReference: MF05A; PackageDescription: Molded SOT-23, .115 x .063 x .040 in Body, 5 Lead, .0375 in Pitch; RoHS: Y; PinCount: 5; ComponentLink1Description: Manufacturer URL; ComponentLink1URL: http://www.national.com/; ComponentLink2Description: LM4030 Datasheet; ComponentLink2URL: http://www.national.com/ds/LM/LM4030.pdf; ComponentLink3Description: LM4030 Web Page; ComponentLink3URL: http://www.national.com/pf/LM/LM4030.html; ComponentLink4Description: MF05A Package Page; ComponentLink4URL: http://www.national.com/packaging/folders/mf05a.html
footprint MF05A_N (SOT23, 5-Leads, Body 2.9x1.6mm, Pitch 0.95mm, Lead Span 2.8mm, IPC Medium Density)
footprint MF05A_L (SOT23, 5-Leads, Body 2.9x1.6mm, Pitch 0.95mm, Lead Span 2.8mm, IPC High Density)
footprint MF05A_M (SOT23, 5-Leads, Body 2.9x1.6mm, Pitch 0.95mm, Lead Span 2.8mm, IPC Low Density)
pins: 1 NC, 2 NC/GND, 3 NC, 4 +VREF, 5 -GND

## LM4030BMF-2.5
designator U?
Ultra-High Precision Shunt Voltage Reference, 5-pin SOT-23; PartNumber: LM4030BMF-2.5; Manufacturer: National Semiconductor; PackageTopMarking: R5JB*XTT; PowerWise: N; CompType: Voltage Reference IC; High-Reliability: Y; DatasheetVersion: May-2008; PackageVersion: revD, Aug-2008; PackageReference: MF05A; PackageDescription: Molded SOT-23, .115 x .063 x .040 in Body, 5 Lead, .0375 in Pitch; RoHS: Y; PinCount: 5; ComponentLink1Description: Manufacturer URL; ComponentLink1URL: http://www.national.com/; ComponentLink2Description: LM4030 Datasheet; ComponentLink2URL: http://www.national.com/ds/LM/LM4030.pdf; ComponentLink3Description: LM4030 Web Page; ComponentLink3URL: http://www.national.com/pf/LM/LM4030.html; ComponentLink4Description: MF05A Package Page; ComponentLink4URL: http://www.national.com/packaging/folders/mf05a.html
footprint MF05A_N (SOT23, 5-Leads, Body 2.9x1.6mm, Pitch 0.95mm, Lead Span 2.8mm, IPC Medium Density)
footprint MF05A_L (SOT23, 5-Leads, Body 2.9x1.6mm, Pitch 0.95mm, Lead Span 2.8mm, IPC High Density)
footprint MF05A_M (SOT23, 5-Leads, Body 2.9x1.6mm, Pitch 0.95mm, Lead Span 2.8mm, IPC Low Density)
pins: 1 NC, 2 NC/GND, 3 NC, 4 +VREF, 5 -GND

## LM4030BMF-2.5/NOPB
designator U?
Ultra-High Precision Shunt Voltage Reference, 5-pin SOT-23, Pb-Free; PartNumber: LM4030BMF-2.5/NOPB; Manufacturer: National Semiconductor; PackageTopMarking: R5JB*XTT; PowerWise: N; CompType: Voltage Reference IC; High-Reliability: Y; DatasheetVersion: May-2008; PackageVersion: revD, Aug-2008; PackageReference: MF05A; PackageDescription: Molded SOT-23, .115 x .063 x .040 in Body, 5 Lead, .0375 in Pitch; RoHS: Y; PinCount: 5; ComponentLink1Description: Manufacturer URL; ComponentLink1URL: http://www.national.com/; ComponentLink2Description: LM4030 Datasheet; ComponentLink2URL: http://www.national.com/ds/LM/LM4030.pdf; ComponentLink3Description: LM4030 Web Page; ComponentLink3URL: http://www.national.com/pf/LM/LM4030.html; ComponentLink4Description: MF05A Package Page; ComponentLink4URL: http://www.national.com/packaging/folders/mf05a.html
footprint MF05A_N (SOT23, 5-Leads, Body 2.9x1.6mm, Pitch 0.95mm, Lead Span 2.8mm, IPC Medium Density)
footprint MF05A_L (SOT23, 5-Leads, Body 2.9x1.6mm, Pitch 0.95mm, Lead Span 2.8mm, IPC High Density)
footprint MF05A_M (SOT23, 5-Leads, Body 2.9x1.6mm, Pitch 0.95mm, Lead Span 2.8mm, IPC Low Density)
pins: 1 NC, 2 NC/GND, 3 NC, 4 +VREF, 5 -GND

## LM4030BMF-4.096
designator U?
Ultra-High Precision Shunt Voltage Reference, 5-pin SOT-23; PartNumber: LM4030BMF-4.096; Manufacturer: National Semiconductor; PackageTopMarking: R5KB*XTT; PowerWise: N; CompType: Voltage Reference IC; High-Reliability: Y; DatasheetVersion: May-2008; PackageVersion: revD, Aug-2008; PackageReference: MF05A; PackageDescription: Molded SOT-23, .115 x .063 x .040 in Body, 5 Lead, .0375 in Pitch; RoHS: Y; PinCount: 5; ComponentLink1Description: Manufacturer URL; ComponentLink1URL: http://www.national.com/; ComponentLink2Description: LM4030 Datasheet; ComponentLink2URL: http://www.national.com/ds/LM/LM4030.pdf; ComponentLink3Description: LM4030 Web Page; ComponentLink3URL: http://www.national.com/pf/LM/LM4030.html; ComponentLink4Description: MF05A Package Page; ComponentLink4URL: http://www.national.com/packaging/folders/mf05a.html
footprint MF05A_N (SOT23, 5-Leads, Body 2.9x1.6mm, Pitch 0.95mm, Lead Span 2.8mm, IPC Medium Density)
footprint MF05A_L (SOT23, 5-Leads, Body 2.9x1.6mm, Pitch 0.95mm, Lead Span 2.8mm, IPC High Density)
footprint MF05A_M (SOT23, 5-Leads, Body 2.9x1.6mm, Pitch 0.95mm, Lead Span 2.8mm, IPC Low Density)
pins: 1 NC, 2 NC/GND, 3 NC, 4 +VREF, 5 -GND

## LM4030BMF-4.096/NOPB
designator U?
Ultra-High Precision Shunt Voltage Reference, 5-pin SOT-23, Pb-Free; PartNumber: LM4030BMF-4.096/NOPB; Manufacturer: National Semiconductor; PackageTopMarking: R5KB*XTT; PowerWise: N; CompType: Voltage Reference IC; High-Reliability: Y; DatasheetVersion: May-2008; PackageVersion: revD, Aug-2008; PackageReference: MF05A; PackageDescription: Molded SOT-23, .115 x .063 x .040 in Body, 5 Lead, .0375 in Pitch; RoHS: Y; PinCount: 5; ComponentLink1Description: Manufacturer URL; ComponentLink1URL: http://www.national.com/; ComponentLink2Description: LM4030 Datasheet; ComponentLink2URL: http://www.national.com/ds/LM/LM4030.pdf; ComponentLink3Description: LM4030 Web Page; ComponentLink3URL: http://www.national.com/pf/LM/LM4030.html; ComponentLink4Description: MF05A Package Page; ComponentLink4URL: http://www.national.com/packaging/folders/mf05a.html
footprint MF05A_N (SOT23, 5-Leads, Body 2.9x1.6mm, Pitch 0.95mm, Lead Span 2.8mm, IPC Medium Density)
footprint MF05A_L (SOT23, 5-Leads, Body 2.9x1.6mm, Pitch 0.95mm, Lead Span 2.8mm, IPC High Density)
footprint MF05A_M (SOT23, 5-Leads, Body 2.9x1.6mm, Pitch 0.95mm, Lead Span 2.8mm, IPC Low Density)
pins: 1 NC, 2 NC/GND, 3 NC, 4 +VREF, 5 -GND

## LM4030BMFX4.096/NOPB
designator U?
Ultra-High Precision Shunt Voltage Reference, 5-pin SOT-23, Pb-Free; PartNumber: LM4030BMFX4.096/NOPB; Manufacturer: National Semiconductor; PackageTopMarking: R5KB*XTT; PowerWise: N; CompType: Voltage Reference IC; High-Reliability: Y; DatasheetVersion: May-2008; PackageVersion: revD, Aug-2008; PackageReference: MF05A; PackageDescription: Molded SOT-23, .115 x .063 x .040 in Body, 5 Lead, .0375 in Pitch; RoHS: Y; PinCount: 5; ComponentLink1Description: Manufacturer URL; ComponentLink1URL: http://www.national.com/; ComponentLink2Description: LM4030 Datasheet; ComponentLink2URL: http://www.national.com/ds/LM/LM4030.pdf; ComponentLink3Description: LM4030 Web Page; ComponentLink3URL: http://www.national.com/pf/LM/LM4030.html; ComponentLink4Description: MF05A Package Page; ComponentLink4URL: http://www.national.com/packaging/folders/mf05a.html
footprint MF05A_N (SOT23, 5-Leads, Body 2.9x1.6mm, Pitch 0.95mm, Lead Span 2.8mm, IPC Medium Density)
footprint MF05A_L (SOT23, 5-Leads, Body 2.9x1.6mm, Pitch 0.95mm, Lead Span 2.8mm, IPC High Density)
footprint MF05A_M (SOT23, 5-Leads, Body 2.9x1.6mm, Pitch 0.95mm, Lead Span 2.8mm, IPC Low Density)
pins: 1 NC, 2 NC/GND, 3 NC, 4 +VREF, 5 -GND

## LM4030BMFX-2.5/NOPB
designator U?
Ultra-High Precision Shunt Voltage Reference, 5-pin SOT-23, Pb-Free; PartNumber: LM4030BMFX-2.5/NOPB; Manufacturer: National Semiconductor; PackageTopMarking: R5JB*XTT; PowerWise: N; CompType: Voltage Reference IC; High-Reliability: Y; DatasheetVersion: May-2008; PackageVersion: revD, Aug-2008; PackageReference: MF05A; PackageDescription: Molded SOT-23, .115 x .063 x .040 in Body, 5 Lead, .0375 in Pitch; RoHS: Y; PinCount: 5; ComponentLink1Description: Manufacturer URL; ComponentLink1URL: http://www.national.com/; ComponentLink2Description: LM4030 Datasheet; ComponentLink2URL: http://www.national.com/ds/LM/LM4030.pdf; ComponentLink3Description: LM4030 Web Page; ComponentLink3URL: http://www.national.com/pf/LM/LM4030.html; ComponentLink4Description: MF05A Package Page; ComponentLink4URL: http://www.national.com/packaging/folders/mf05a.html
footprint MF05A_N (SOT23, 5-Leads, Body 2.9x1.6mm, Pitch 0.95mm, Lead Span 2.8mm, IPC Medium Density)
footprint MF05A_L (SOT23, 5-Leads, Body 2.9x1.6mm, Pitch 0.95mm, Lead Span 2.8mm, IPC High Density)
footprint MF05A_M (SOT23, 5-Leads, Body 2.9x1.6mm, Pitch 0.95mm, Lead Span 2.8mm, IPC Low Density)
pins: 1 NC, 2 NC/GND, 3 NC, 4 +VREF, 5 -GND

## LM4030CMF-2.5
designator U?
Ultra-High Precision Shunt Voltage Reference, 5-pin SOT-23; PartNumber: LM4030CMF-2.5; Manufacturer: National Semiconductor; PackageTopMarking: R5JC*XTT; PowerWise: N; CompType: Voltage Reference IC; High-Reliability: Y; DatasheetVersion: May-2008; PackageVersion: revD, Aug-2008; PackageReference: MF05A; PackageDescription: Molded SOT-23, .115 x .063 x .040 in Body, 5 Lead, .0375 in Pitch; RoHS: Y; PinCount: 5; ComponentLink1Description: Manufacturer URL; ComponentLink1URL: http://www.national.com/; ComponentLink2Description: LM4030 Datasheet; ComponentLink2URL: http://www.national.com/ds/LM/LM4030.pdf; ComponentLink3Description: LM4030 Web Page; ComponentLink3URL: http://www.national.com/pf/LM/LM4030.html; ComponentLink4Description: MF05A Package Page; ComponentLink4URL: http://www.national.com/packaging/folders/mf05a.html
footprint MF05A_N (SOT23, 5-Leads, Body 2.9x1.6mm, Pitch 0.95mm, Lead Span 2.8mm, IPC Medium Density)
footprint MF05A_L (SOT23, 5-Leads, Body 2.9x1.6mm, Pitch 0.95mm, Lead Span 2.8mm, IPC High Density)
footprint MF05A_M (SOT23, 5-Leads, Body 2.9x1.6mm, Pitch 0.95mm, Lead Span 2.8mm, IPC Low Density)
pins: 1 NC, 2 NC/GND, 3 NC, 4 +VREF, 5 -GND

## LM4030CMF-2.5/NOPB
designator U?
Ultra-High Precision Shunt Voltage Reference, 5-pin SOT-23, Pb-Free; PartNumber: LM4030CMF-2.5/NOPB; Manufacturer: National Semiconductor; PackageTopMarking: R5JC*XTT; PowerWise: N; CompType: Voltage Reference IC; High-Reliability: Y; DatasheetVersion: May-2008; PackageVersion: revD, Aug-2008; PackageReference: MF05A; PackageDescription: Molded SOT-23, .115 x .063 x .040 in Body, 5 Lead, .0375 in Pitch; RoHS: Y; PinCount: 5; ComponentLink1Description: Manufacturer URL; ComponentLink1URL: http://www.national.com/; ComponentLink2Description: LM4030 Datasheet; ComponentLink2URL: http://www.national.com/ds/LM/LM4030.pdf; ComponentLink3Description: LM4030 Web Page; ComponentLink3URL: http://www.national.com/pf/LM/LM4030.html; ComponentLink4Description: MF05A Package Page; ComponentLink4URL: http://www.national.com/packaging/folders/mf05a.html
footprint MF05A_N (SOT23, 5-Leads, Body 2.9x1.6mm, Pitch 0.95mm, Lead Span 2.8mm, IPC Medium Density)
footprint MF05A_L (SOT23, 5-Leads, Body 2.9x1.6mm, Pitch 0.95mm, Lead Span 2.8mm, IPC High Density)
footprint MF05A_M (SOT23, 5-Leads, Body 2.9x1.6mm, Pitch 0.95mm, Lead Span 2.8mm, IPC Low Density)
pins: 1 NC, 2 NC/GND, 3 NC, 4 +VREF, 5 -GND

## LM4030CMF-4.096
designator U?
Ultra-High Precision Shunt Voltage Reference, 5-pin SOT-23; PartNumber: LM4030CMF-4.096; Manufacturer: National Semiconductor; PackageTopMarking: R5KC*XTT; PowerWise: N; CompType: Voltage Reference IC; High-Reliability: Y; DatasheetVersion: May-2008; PackageVersion: revD, Aug-2008; PackageReference: MF05A; PackageDescription: Molded SOT-23, .115 x .063 x .040 in Body, 5 Lead, .0375 in Pitch; RoHS: Y; PinCount: 5; ComponentLink1Description: Manufacturer URL; ComponentLink1URL: http://www.national.com/; ComponentLink2Description: LM4030 Datasheet; ComponentLink2URL: http://www.national.com/ds/LM/LM4030.pdf; ComponentLink3Description: LM4030 Web Page; ComponentLink3URL: http://www.national.com/pf/LM/LM4030.html; ComponentLink4Description: MF05A Package Page; ComponentLink4URL: http://www.national.com/packaging/folders/mf05a.html
footprint MF05A_N (SOT23, 5-Leads, Body 2.9x1.6mm, Pitch 0.95mm, Lead Span 2.8mm, IPC Medium Density)
footprint MF05A_L (SOT23, 5-Leads, Body 2.9x1.6mm, Pitch 0.95mm, Lead Span 2.8mm, IPC High Density)
footprint MF05A_M (SOT23, 5-Leads, Body 2.9x1.6mm, Pitch 0.95mm, Lead Span 2.8mm, IPC Low Density)
pins: 1 NC, 2 NC/GND, 3 NC, 4 +VREF, 5 -GND

## LM4030CMF-4.096/NOPB
designator U?
Ultra-High Precision Shunt Voltage Reference, 5-pin SOT-23, Pb-Free; PartNumber: LM4030CMF-4.096/NOPB; Manufacturer: National Semiconductor; PackageTopMarking: R5KC*XTT; PowerWise: N; CompType: Voltage Reference IC; High-Reliability: Y; DatasheetVersion: May-2008; PackageVersion: revD, Aug-2008; PackageReference: MF05A; PackageDescription: Molded SOT-23, .115 x .063 x .040 in Body, 5 Lead, .0375 in Pitch; RoHS: Y; PinCount: 5; ComponentLink1Description: Manufacturer URL; ComponentLink1URL: http://www.national.com/; ComponentLink2Description: LM4030 Datasheet; ComponentLink2URL: http://www.national.com/ds/LM/LM4030.pdf; ComponentLink3Description: LM4030 Web Page; ComponentLink3URL: http://www.national.com/pf/LM/LM4030.html; ComponentLink4Description: MF05A Package Page; ComponentLink4URL: http://www.national.com/packaging/folders/mf05a.html
footprint MF05A_N (SOT23, 5-Leads, Body 2.9x1.6mm, Pitch 0.95mm, Lead Span 2.8mm, IPC Medium Density)
footprint MF05A_L (SOT23, 5-Leads, Body 2.9x1.6mm, Pitch 0.95mm, Lead Span 2.8mm, IPC High Density)
footprint MF05A_M (SOT23, 5-Leads, Body 2.9x1.6mm, Pitch 0.95mm, Lead Span 2.8mm, IPC Low Density)
pins: 1 NC, 2 NC/GND, 3 NC, 4 +VREF, 5 -GND

## LM4030CMFX4.096/NOPB
designator U?
Ultra-High Precision Shunt Voltage Reference, 5-pin SOT-23, Pb-Free; PartNumber: LM4030CMFX4.096/NOPB; Manufacturer: National Semiconductor; PackageTopMarking: R5KC*XTT; PowerWise: N; CompType: Voltage Reference IC; High-Reliability: Y; DatasheetVersion: May-2008; PackageVersion: revD, Aug-2008; PackageReference: MF05A; PackageDescription: Molded SOT-23, .115 x .063 x .040 in Body, 5 Lead, .0375 in Pitch; RoHS: Y; PinCount: 5; ComponentLink1Description: Manufacturer URL; ComponentLink1URL: http://www.national.com/; ComponentLink2Description: LM4030 Datasheet; ComponentLink2URL: http://www.national.com/ds/LM/LM4030.pdf; ComponentLink3Description: LM4030 Web Page; ComponentLink3URL: http://www.national.com/pf/LM/LM4030.html; ComponentLink4Description: MF05A Package Page; ComponentLink4URL: http://www.national.com/packaging/folders/mf05a.html
footprint MF05A_N (SOT23, 5-Leads, Body 2.9x1.6mm, Pitch 0.95mm, Lead Span 2.8mm, IPC Medium Density)
footprint MF05A_L (SOT23, 5-Leads, Body 2.9x1.6mm, Pitch 0.95mm, Lead Span 2.8mm, IPC High Density)
footprint MF05A_M (SOT23, 5-Leads, Body 2.9x1.6mm, Pitch 0.95mm, Lead Span 2.8mm, IPC Low Density)
pins: 1 NC, 2 NC/GND, 3 NC, 4 +VREF, 5 -GND